# Altium footprint library Adams Altium Library.PcbLib: 104 footprints (part 5 of 7)
Each footprint in its own frame and in the unit in brackets; x right, y up, seen from the top. Pads: shape width x height; smd on the part's side, far side on the other; paste and mask are expansions set on the pad; w line width, h text height; cw(c..) or ccw(c..) is an arc to the next point about the centre after c.
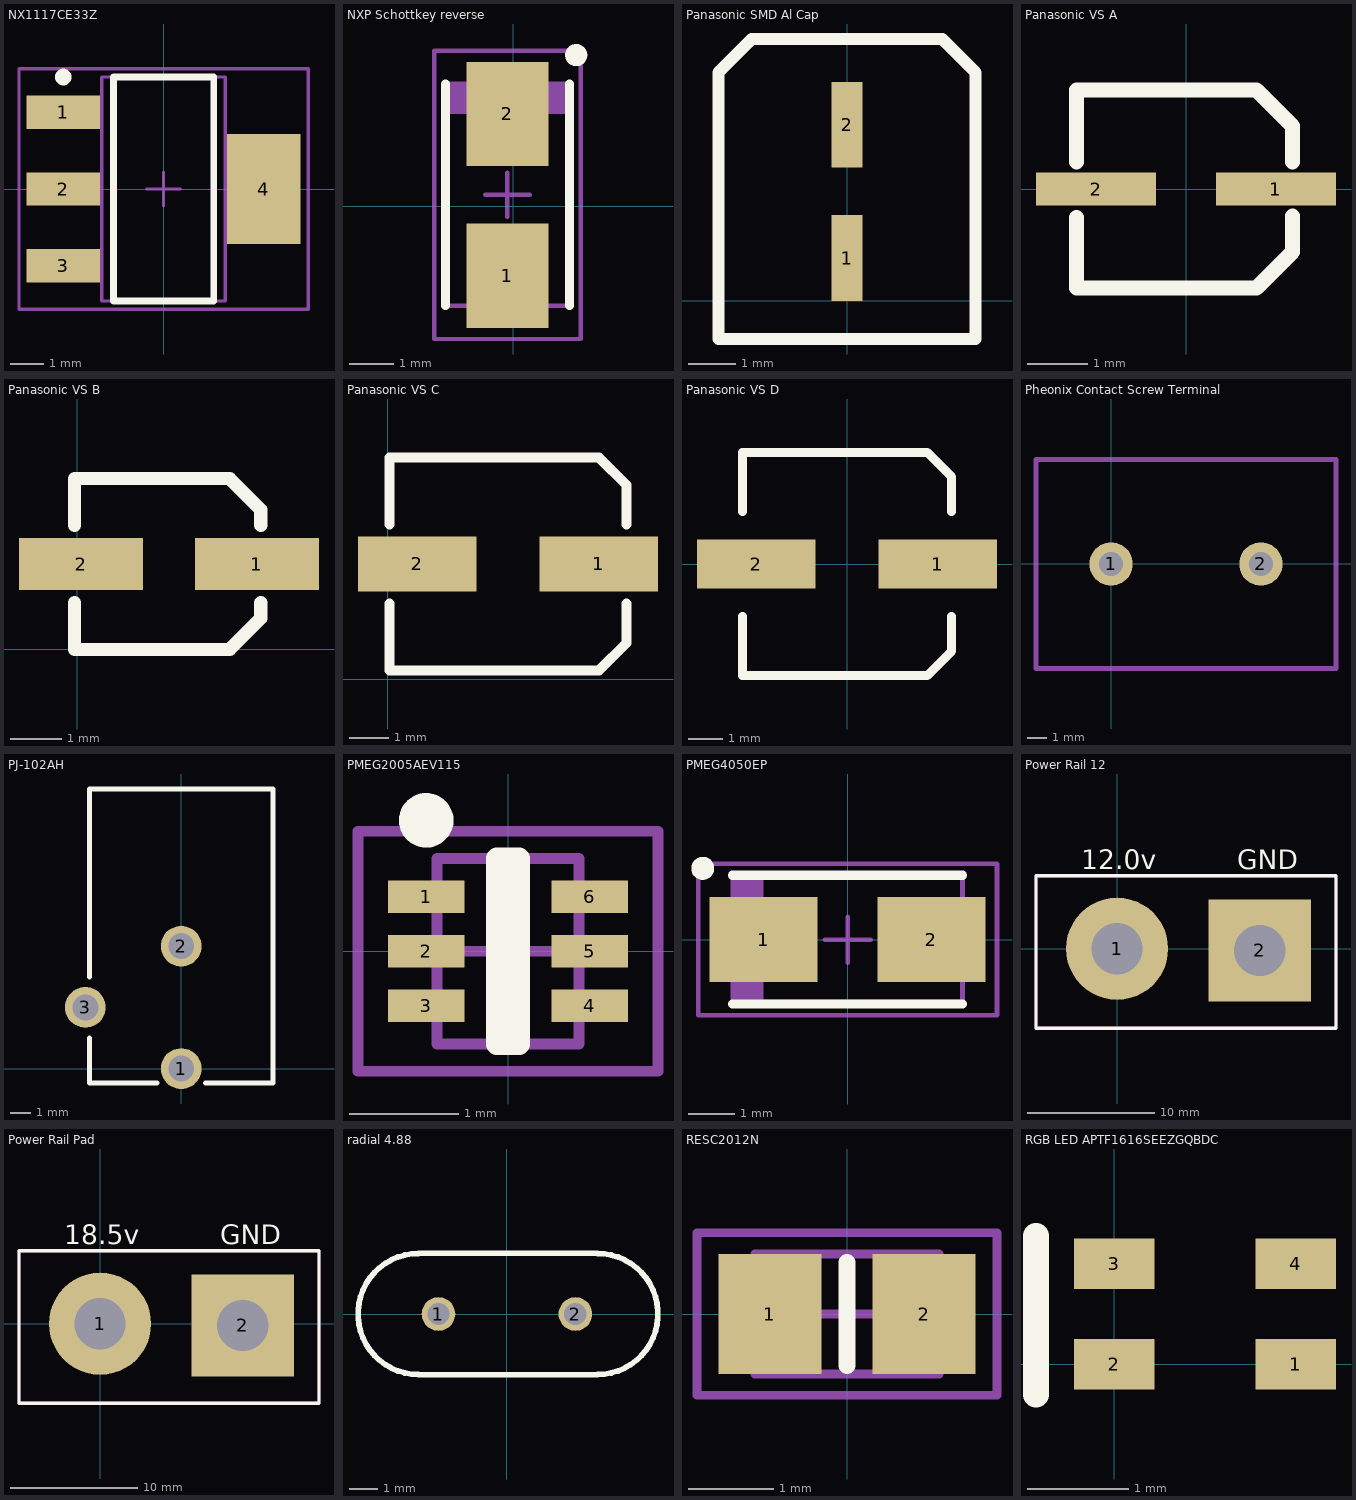
[diagram p4: the footprints below, top view; thin cyan lines are the x and y axes]

## NX1117CE33Z [mm] "3.3v linear regulator"
height 1.8
pads (4):
  rect 2.2x1 smd: 1(-3,2.3) 2(-3,0) 3(-3,-2.3)
  rect 2.2x3.3 smd: 4(3,0)
Top Overlay:
  circle w0.25: c-3,3.35 r0.125
  lines w0.2: -1.5,-3.35 -1.5,3.35 1.5,3.35 1.5,-3.35 -1.5,-3.35
Mechanical 13:
  lines w0.1: -1.85,-3.35 -1.85,3.35 1.85,3.35 1.85,-3.35 -1.85,-3.35
Mechanical 15:
  lines w0.1: -0.5,0 0.5,0 ; 0,-0.5 0,0.5 ; -4.325,-3.6 -4.325,3.6 4.325,3.6 4.325,-3.6 -4.325,-3.6
3D body: height 1.8, standoff 0.02, extent -1.85,-3.35 1.85,3.35

## NXP Schottkey reverse [mm]
pads (2):
  rect 1.85x2.35 smd: 1(-0.127,-1.571) 2(-0.127,2.079)
Top Overlay:
  circle w0.25: c1.423,3.404 r0.125
  lines w0.2: -1.527,-2.246 -1.527,2.754 ; 1.273,-2.246 1.273,2.754
Mechanical 13:
  region: -1.477,2.754 -1.477,2.081 1.223,2.081 1.223,2.754
  lines w0.1: -1.477,-2.246 -1.477,2.754 1.223,2.754 1.223,-2.246 -1.477,-2.246
Mechanical 15:
  lines w0.1: -0.627,0.254 0.373,0.254 ; -0.127,-0.246 -0.127,0.754 ; -1.777,-2.996 -1.777,3.504 1.523,3.504 1.523,-2.996 -1.777,-2.996
3D body: height 1.1, standoff 0, extent -1.477,-2.246 1.223,2.754

## Panasonic SMD Al Cap [mm] "Panasonic SMD Al Electrolytic Capacitor"
height 5.8
pads (2):
  rect 0.65x1.8 smd: 1(0,0.9) 2(0,3.7)
Top Overlay:
  lines w0.254: -2.7,-0.8 2.7,-0.8 2.7,4.8 2,5.5 -2,5.5 -2.7,4.8 -2.7,-0.8

## Panasonic VS A [mm]
pads (2):
  rect 2x0.55 smd: 1(1.5,0) 2(-1.5,0)
Top Overlay:
  lines w0.254: -1.825,-0.475 -1.825,-1.65 1.175,-1.65 1.775,-1.05 1.775,-0.45 ; -1.825,0.45 -1.825,1.65 1.175,1.65 1.775,1.05 1.775,0.45

## Panasonic VS B [mm]
pads (2):
  rect 2.4x1 smd: 1(3.478,1.651) 2(0.078,1.651)
Top Overlay:
  lines w0.254: -0.047,0.901 -0.047,0.001 2.953,0.001 3.553,0.601 3.553,0.901 ; -0.047,2.401 -0.047,3.301 2.953,3.301 3.553,2.701 3.553,2.401

## Panasonic VS C [mm]
pads (2):
  rect 3x1.4 smd: 1(5.348,2.921) 2(0.748,2.921)
Top Overlay:
  lines w0.254: 0.048,1.921 0.048,0.221 5.348,0.221 6.048,0.921 6.048,1.921 ; 0.048,3.921 0.048,5.621 5.348,5.621 6.048,4.921 6.048,3.921

## Panasonic VS D [mm]
pads (2):
  rect 3.4x1.4 smd: 1(2.6,0) 2(-2.6,0)
Top Overlay:
  lines w0.254: -3,-1.5 -3,-3.2 2.3,-3.2 3,-2.5 3,-1.5 ; -3,1.5 -3,3.2 2.3,3.2 3,2.5 3,1.5

## Pheonix Contact Screw Terminal [mm]
height 18
pads (2):
  round 2.2 hole 1.2: 1(0,0) 2(7.61,0)
Mechanical 13:
  lines w0.254: -3.81,-5.3 -3.81,5.3 11.42,5.3 11.42,-5.3 -3.81,-5.3

## PJ-102AH [mm] "Center positive 2.1 mm power jack"
height 11
pads (3):
  round 2 hole 1.27: 1(0,0) 2(0,6) 3(-4.7,3)
Top Overlay:
  lines w0.254: -4.5,1.5 -4.5,-0.7 -1.2,-0.7 ; -4.5,4.5 -4.5,13.7 4.5,13.7 4.5,-0.7 1.2,-0.7
3D body: height 11, standoff 0, extent -5.8,-0.7 4.5,13.7

## PMEG2005AEV115 [mm] "SOT23, 6-Leads, Body 1.7x1.7mm (max), Pitch 0.50mm, IPC Medium Density"
height 0.6
pads (6):
  rect 0.7x0.3 smd: 1(-0.75,0.5) 2(-0.75,0) 3(-0.75,-0.5) 4(0.75,-0.5) 5(0.75,0) 6(0.75,0.5)
Top Overlay:
  circle w0.25: c-0.75,1.2 r0.125
  lines w0.2: -0.1,-0.85 0.1,-0.85 0.1,0.85 -0.1,0.85 -0.1,-0.85
Mechanical 13:
  lines w0.1: -0.65,-0.85 -0.65,0.85 0.65,0.85 0.65,-0.85 -0.65,-0.85
Mechanical 15:
  lines w0.1: -0.5,0 0.5,0 ; 0,-0.5 0,0.5 ; -1.375,-1.1 -1.375,1.1 1.375,1.1 1.375,-1.1 -1.375,-1.1
3D body: height 0.6, standoff 0.5, extent -0.65,-0.85 0.65,0.85

## PMEG4050EP [mm] "PMEG4050EP NXP SMD Schottky Diode"
height 1.1
pads (2):
  rect 2.35x1.85 smd: 1(-1.825,0) 2(1.825,0)
Top Overlay:
  circle w0.25: c-3.15,1.55 r0.125
  lines w0.2: -2.5,-1.4 2.5,-1.4 ; -2.5,1.4 2.5,1.4
Mechanical 13:
  rectangle: -2.5,-1.35 -1.827,1.35
  lines w0.1: -2.5,-1.35 -2.5,1.35 2.5,1.35 2.5,-1.35 -2.5,-1.35
Mechanical 15:
  lines w0.1: -0.5,0 0.5,0 ; 0,-0.5 0,0.5 ; -3.25,-1.65 -3.25,1.65 3.25,1.65 3.25,-1.65 -3.25,-1.65
3D body: height 1.1, standoff 0, extent -2.5,-1.35 2.5,1.35

## Power Rail 12 [mm]
pads (2):
  round 8 hole 4: 1(0,0)
  rect 8x8 hole 4: 2(11.176,-0.127)
Top Overlay:
  lines w0.254: -6.35,-6.223 17.145,-6.223 17.145,5.715 -6.35,5.715 -6.35,-6.096 -6.35,-6.223
  text "12.0v" at -2.794,6.223 h1.52
  text "GND" at 9.398,6.223 h1.52
Mechanical 13:
  lines w0.254: -6.35,-6.223 17.145,-6.223 17.145,5.715 -6.35,5.715 -6.35,-6.223

## Power Rail Pad [mm] "Custom pad for WAVE power rails"
pads (2):
  round 8 hole 4: 1(0,0)
  rect 8x8 hole 4: 2(11.176,-0.127)
Top Overlay:
  lines w0.254: -6.35,-6.223 -6.35,-6.096 -6.35,5.715 17.145,5.715 17.145,-6.223 -6.35,-6.223
  text "GND" at 9.398,6.223 h1.52
  text "18.5v" at -2.794,6.223 h1.52
Mechanical 13:
  lines w0.254: -6.35,-6.223 -6.35,5.715 17.145,5.715 17.145,-6.223 -6.35,-6.223

## radial 4.88 [mm]
pads (2):
  round 1.2 hole 0.8: 1(-2.44,0) 2(2.44,0)
Top Overlay:
  lines w0.2: -3.15,2.159 3.226,2.159 ; -3.124,-2.159 3.226,-2.159
  lines w0.203: -3.15,-2.159 cw(c-3.15,0) -3.15,2.159 ; 3.226,-2.159 ccw(c3.226,0) 3.226,2.159

## RESC2012N [mm] "Chip Resistor, Body 2.0x1.2mm, IPC Medium Density"
height 0.7
pads (2):
  rect 1.2x1.4 smd: 1(-0.9,0) 2(0.9,0)
Top Overlay:
  lines w0.2: 0,-0.6 0,0.6
Mechanical 13:
  lines w0.1: -1.075,-0.7 -1.075,0.7 1.075,0.7 1.075,-0.7 -1.075,-0.7
Mechanical 15:
  lines w0.1: -0.5,0 0.5,0 ; 0,-0.5 0,0.5 ; -1.75,-0.95 -1.75,0.95 1.75,0.95 1.75,-0.95 -1.75,-0.95
3D body: height 0.7, standoff 0, extent -1.075,-0.7 1.075,0.7

## RGB LED APTF1616SEEZGQBDC [mm] "RGB LED"
pads (4):
  rect 0.8x0.5 smd: 1(1.8,0) 2(0,0) 3(0,1) 4(1.8,1)
Top Overlay:
  lines w0.254: -0.775,-0.3 -0.775,1.275